# EAGLE library part SKRHABE010 (library SKRHABE010)
Multi-Directional Switches 4-directn cntr push W/boss 200K Cycles Source: Datasheet
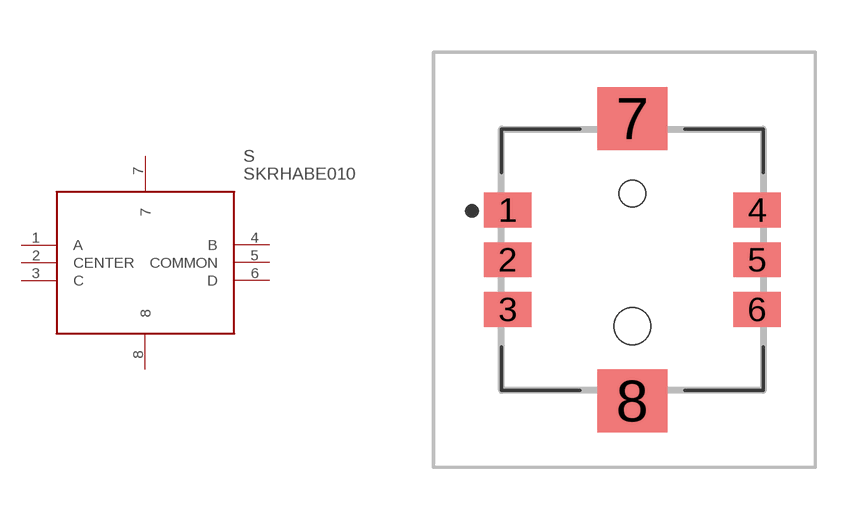
[diagram p0: symbol with the pads of SKRHABE010; footprint SKRHABE010]

Designator prefix S

## SKRHABE010 (Description: Multi-Directional Switches 4-directn cntr push W/boss 200K Cycles; Height: 5mm; Manufacturer_Name: ALPS Electric; Manufacturer_Part_Number: SKRHABE010; Mouser_Part_Number: 688-SKRHAB; Mouser_Price-Stock: https://www.mouser.co.uk/ProductDetail/Alps-Alpine/SKRHABE010?qs=seHrhfPpLDxEOwRqoDvYHw%3D%3D)  [SKRHABE010]
1  A
2  CENTER
3  C
4  B
5  COMMON
6  D
7  7
8  8

## Footprint SKRHABE010 (pad centres in mm)
SKRHABE010-1
smd 1.35 x 1: 1 -3.575,1.425; 2 -3.575,0; 3 -3.575,-1.425; 4 3.575,1.425; 5 3.575,0; 6 3.575,-1.425
smd 2 x 1.8: 7 0,4.05; 8 0,-4.05
hole 0.75 at 0,1.9
hole 1.05 at 0,-1.9